# Altium footprint library PcbLib1.PcbLib: 2 footprints
Each footprint in its own frame and in the unit in brackets; x right, y up, seen from the top. Pads: shape width x height; smd on the part's side, far side on the other; paste and mask are expansions set on the pad; w line width, h text height; cw(c..) or ccw(c..) is an arc to the next point about the centre after c.
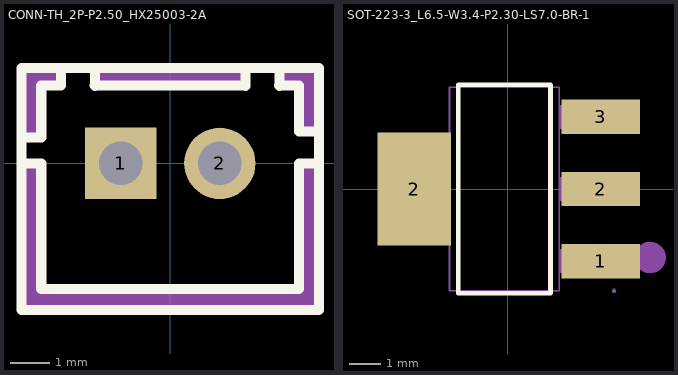
[diagram p0: the footprints below, top view; thin cyan lines are the x and y axes]

## CONN-TH_2P-P2.50_HX25003-2A [mm]
pads (2):
  rect 1.8x1.8 hole 1.1 paste+0 mask+0.05: 1(-1.25,0)
  round 1.8 hole 1.1 paste+0 mask+0.05: 2(1.25,0)
Top Overlay:
  lines w0.254: -3.75,-2.416 -3.75,0 -3.25,0 -3.25,-2.416 -3.25,-3.167 3.25,-3.167 3.25,-2.344 3.25,0 3.75,0 3.75,-2.344 ; -3.75,-1.603 -3.75,0.648 -3.25,0.65 -3.25,1.958 -2.75,1.958 -2.75,2.408 ; -1.9,1.95 -1.9,2.4 ; -1.9,1.958 1.9,1.958 ; 1.9,1.95 1.9,2.4 ; 2.75,1.95 2.75,2.399 ; 2.75,1.958 3.25,1.958 3.25,0.8 3.75,0.8 3.75,-1.501 ; -3.75,-3.7 -3.75,2.4 3.75,2.4 3.75,-3.7 -3.75,-3.7
Mechanical 6:
  region: 1.9,2.4 1.9,1.9 -1.9,1.9 -1.9,2.4
  region: 3.25,0 3.75,0 3.75,-3.7 -3.75,-3.7 -3.75,-0.05 -3.25,0 -3.25,-3.167 3.25,-3.167
  region: -2.75,1.9 -3.241,1.9 -3.25,1.908 -3.25,0.75 -3.75,0.75 -3.75,2.35 -2.751,2.35 -2.75,2.349
  region: 2.75,1.95 3.242,1.95 3.25,1.958 3.25,0.8 3.75,0.8 3.75,2.4 2.751,2.4 2.75,2.399
Mechanical 15:
  region: -3.69,-3.5 -3.69,-3.475 -3.725,-3.44 -3.775,-3.44 -3.81,-3.475 -3.81,-3.5 -3.81,-3.525 -3.775,-3.56 -3.725,-3.56 -3.69,-3.525 -3.69,-3.5
  region: -1.57,0.32 -0.93,0.32 -0.93,-0.32 -1.57,-0.32
  region: 0.93,0.32 1.57,0.32 1.57,-0.32 0.93,-0.32
  lines w0.051: -3.75,-3.5 3.75,-3.5 3.75,2.4 -3.75,2.4 -3.75,-3.5

## SOT-223-3_L6.5-W3.4-P2.30-LS7.0-BR-1 [mm]
pads (4):
  rect 2.5x1.1 smd: 1(2.97,-2.3) 2(2.97,0) 3(2.97,2.3)
  rect 2.34x3.6 smd: 2(-2.97,0)
Top Overlay:
  lines w0.152: -1.571,-3.326 1.371,-3.326 1.371,3.326 -1.571,3.326 -1.571,-3.326
Mechanical 6:
  circle w0.5: c4.552,-2.188 r0.25
Mechanical 15:
  region: 1.64,1.925 1.64,2.675 2.66,2.675 2.66,1.925
  region: 2.65,1.925 2.65,2.675 3.4,2.675 3.4,1.925
  region: 1.64,-0.375 1.64,0.375 2.66,0.375 2.66,-0.375
  region: 2.65,-0.375 2.65,0.375 3.4,0.375 3.4,-0.375
  region: 1.64,-2.675 1.64,-1.925 2.66,-1.925 2.66,-2.675
  region: 2.65,-2.675 2.65,-1.925 3.4,-1.925 3.4,-2.675
  region: -2.86,-1.5 -2.86,1.5 -1.84,1.5 -1.84,-1.5
  region: -3.6,-1.5 -3.6,1.5 -2.85,1.5 -2.85,-1.5
  region: 3.46,-3.25 3.46,-3.225 3.425,-3.19 3.375,-3.19 3.34,-3.225 3.34,-3.25 3.34,-3.275 3.375,-3.31 3.425,-3.31 3.46,-3.275 3.46,-3.25
  lines w0.051: -1.85,-3.25 1.65,-3.25 1.65,3.25 -1.85,3.25 -1.85,-3.25